# Altium footprint library SWRH1207B.PcbLib: 1 footprints
Each footprint in its own frame and in the unit in brackets; x right, y up, seen from the top. Pads: shape width x height; smd on the part's side, far side on the other; paste and mask are expansions set on the pad; w line width, h text height; cw(c..) or ccw(c..) is an arc to the next point about the centre after c.
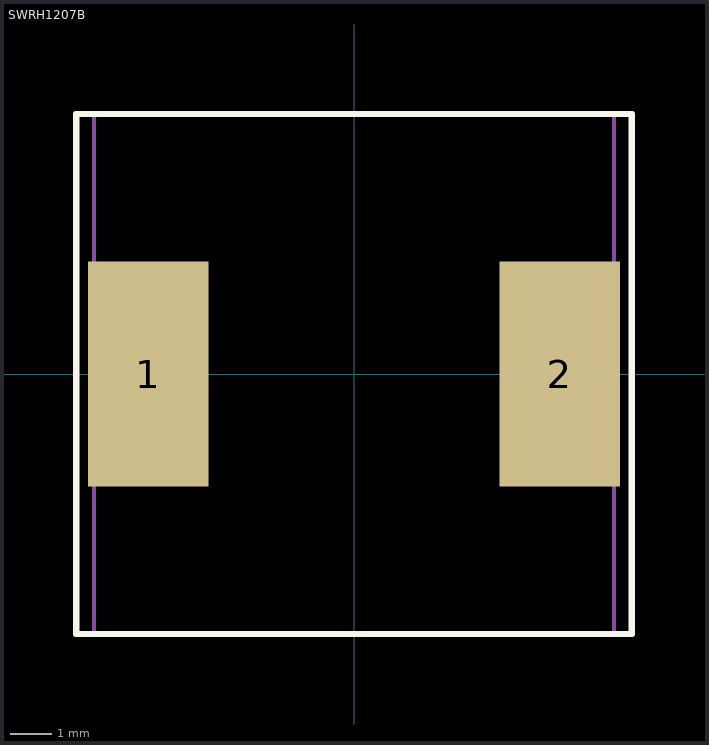
[diagram p0: the footprint, top view; thin cyan lines are the x and y axes]

## SWRH1207B [mm] "Pitch9.9mm Body12.5x12.5mm High8mm"
height 8
pads (2):
  rect 2.9x5.4 smd: 1(-4.95,0) 2(4.95,0)
Top Overlay:
  lines w0.152: -6.676,-6.25 -6.676,6.25 6.676,6.25 6.676,-6.25 -6.676,-6.25
Mechanical 13:
  lines w0.1: -6.25,-6.25 6.25,-6.25 6.25,6.25 -6.25,6.25 -6.25,-6.25
Mechanical 15:
  lines w0.1: -6.702,-6.276 -6.702,6.276 6.702,6.276 6.702,-6.276 -6.702,-6.276
3D body: height 8, standoff 0, extent -6.25,-6.25 6.25,6.25